# Altium footprint library SOD250X125X100L13X32N.PcbLib: 1 footprints
Each footprint in its own frame and in the unit in brackets; x right, y up, seen from the top. Pads: shape width x height; smd on the part's side, far side on the other; paste and mask are expansions set on the pad; w line width, h text height; cw(c..) or ccw(c..) is an arc to the next point about the centre after c.
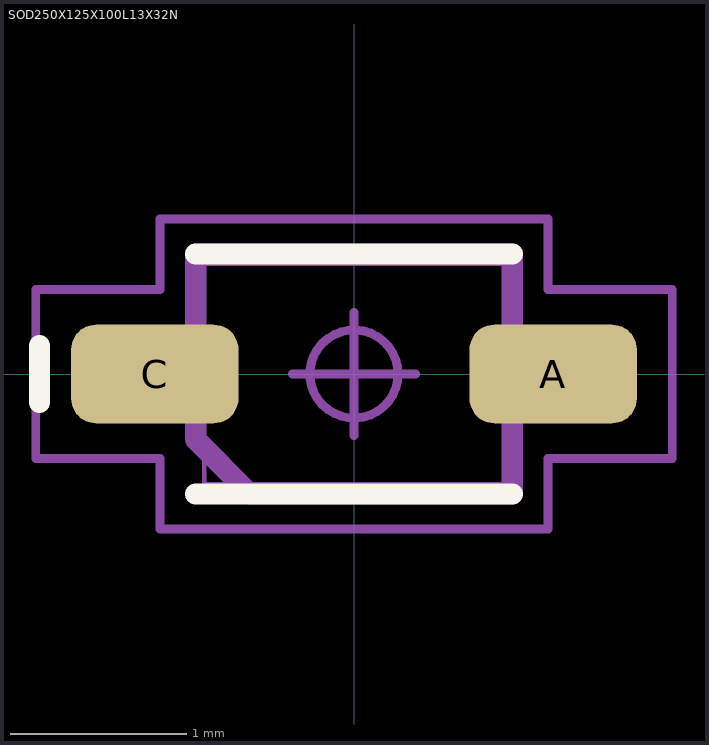
[diagram p0: the footprint, top view; thin cyan lines are the x and y axes]

## SOD250X125X100L13X32N [mm] "Diode, Small Outline Diode (SOD); 1.70 mm L X 1.25 mm W X 1.00 mm H body"
height 1
pads (2):
  rrect50% 0.95x0.56 smd: A(1.13,0) C(-1.13,0)
Top Overlay:
  lines w0.12: -1.785,-0.16 -1.785,0.16 ; -0.9,-0.68 0.9,-0.68 ; -0.9,0.68 0.9,0.68
Mechanical 3:
  lines w0.12: -0.9,-0.37 -0.59,-0.68 0.9,-0.68 0.9,0.68 -0.9,0.68 -0.9,-0.37
Mechanical 5:
  lines w0.025: -1.25,-0.162 -1.115,-0.162 -1.115,0.162 -1.25,0.162 -1.25,-0.162 ; -0.85,-0.625 -0.85,0.625 0.85,0.625 0.85,-0.625 -0.85,-0.625 ; 1.115,-0.162 1.115,0.162 1.25,0.162 1.25,-0.162 1.115,-0.162
Mechanical 7:
  circle w0.05: c0,0 r0.25
  lines w0.05: -0.35,0 0.35,0 ; 0,-0.35 0,0.35 ; -1.805,-0.48 -1.805,0.48 -1.1,0.48 -1.1,0.88 1.1,0.88 1.1,0.48 1.805,0.48 1.805,-0.48 1.1,-0.48 1.1,-0.88 -1.1,-0.88 -1.1,-0.48 -1.805,-0.48
Mechanical 9:
  text "'.Designator'" at -6.477,-0.381 h1
3D body "SOD250X125X100L13X32.STEP": height 1, standoff 0, extent -1.25,-0.615 1.25,0.635
3D body: height 1, standoff 0, extent -1.805,-0.88 1.805,0.88